# Altium schematic symbol library CON4.Schlib: 1 symbol
Pins are listed as number, name and electrical type; pins without a type are passive.

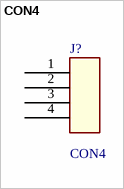
[diagram p0: symbol CON4]

## CON4
designator J?
pins: 1, 2, 3, 4